# Altium schematic symbol library SPREAD_BUFFER.SchLib: 1 symbol
Pins are listed as number, name and electrical type; pins without a type are passive.

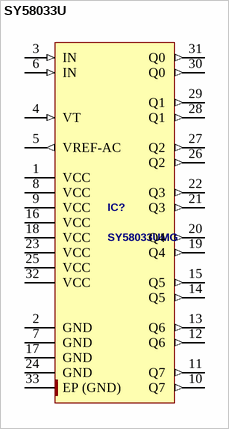
[diagram p0: symbol SY58033U]

## SY58033U
designator IC?, comment SY58033UMG
ULTRA-PRECISION 1:8 BUFFER WITH 400mV LVPECL OUTPUTS AND INTERNAL TERMINATION
footprint QFN50P500X500X90_HS-33N (QFN, 32-Leads, Body 5,00x5,00mm, Pitch 0,50mm, Thermal Pad 3,10x3,10mm, IPC Medium Density)
pins: 1 VCC (power), 2 GND (power), 3 IN (in), 4 VT (in), 5 VREF-AC (out), 6 IN (in), 7 GND (power), 8 VCC (power), 9 VCC (power), 10 Q7 (out), 11 Q7 (out), 12 Q6 (out), 13 Q6 (out), 14 Q5 (out), 15 Q5 (out), 16 VCC (power), 17 GND (power), 18 VCC (power), 19 Q4 (out), 20 Q4 (out), 21 Q3 (out), 22 Q3 (out), 23 VCC (power), 24 GND (power), 25 VCC (power), 26 Q2 (out), 27 Q2 (out), 28 Q1 (out), 29 Q1 (out), 30 Q0 (out), 31 Q0 (out), 32 VCC (power), 33 EP (GND) (power)